# Altium footprint library 常用封装2.PcbLib: 108 footprints (part 7 of 7)
Each footprint in its own frame and in the unit in brackets; x right, y up, seen from the top. Pads: shape width x height; smd on the part's side, far side on the other; paste and mask are expansions set on the pad; w line width, h text height; cw(c..) or ccw(c..) is an arc to the next point about the centre after c.
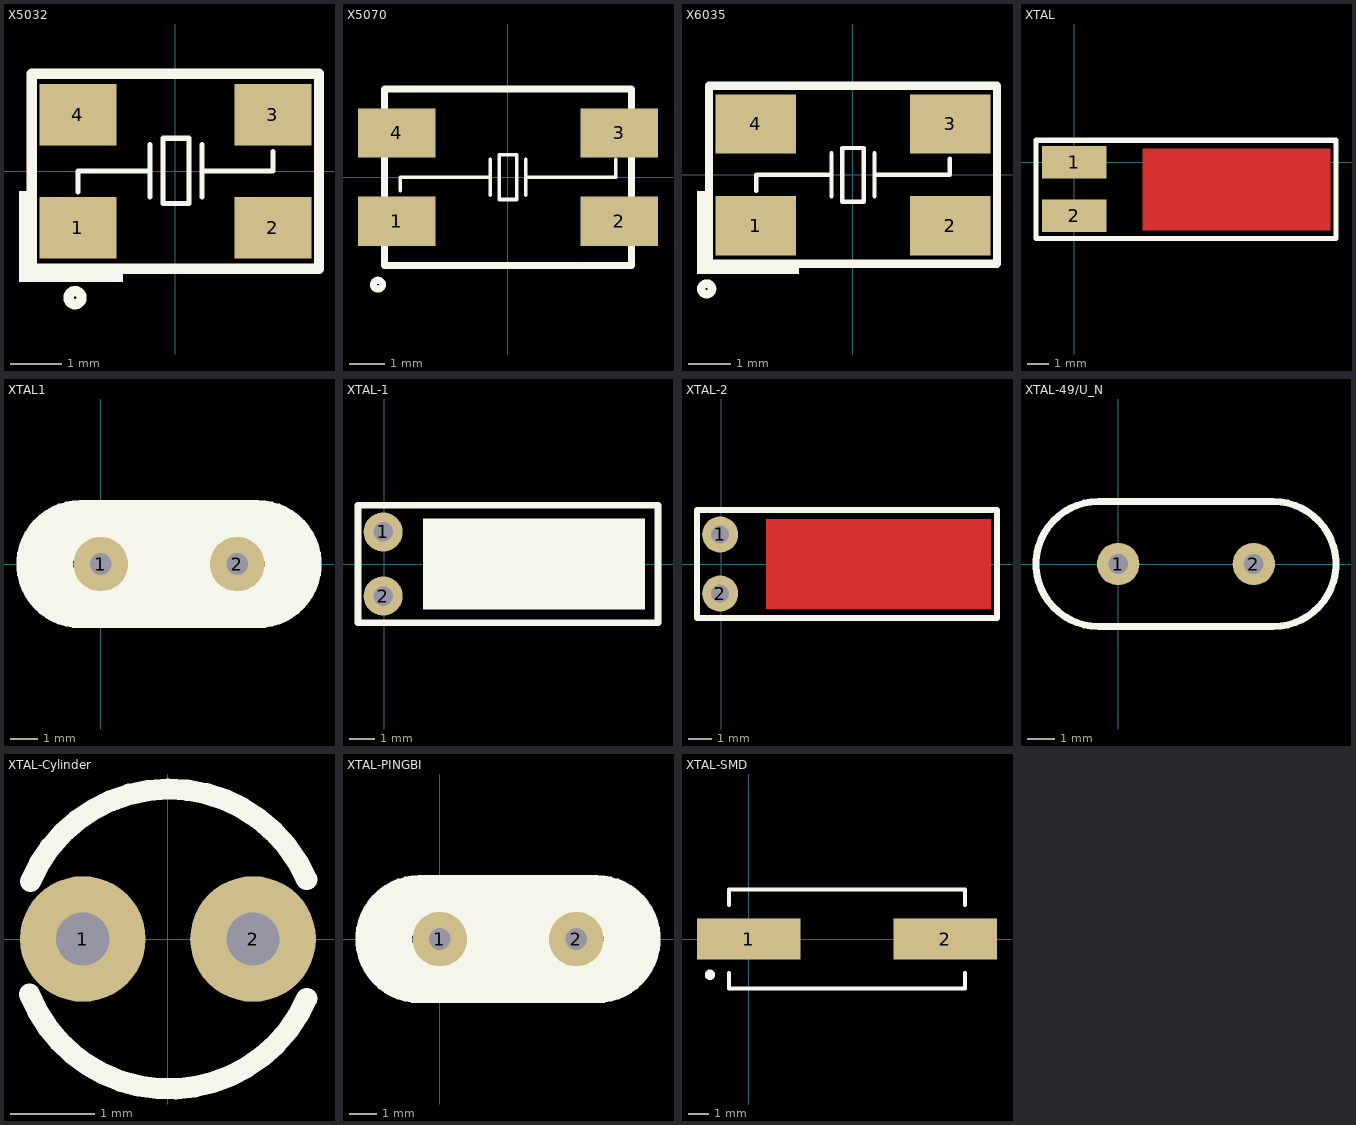
[diagram p6: the footprints below, top view; thin cyan lines are the x and y axes]

## X5032 [mm]
pads (4):
  rect 1.5x1.2 smd: 1(-1.9,-1.1) 2(1.9,-1.1) 3(1.9,1.1) 4(-1.9,1.1)
Top Overlay:
  circle w0.2: c-1.956,-2.464 r0.127
  rectangle: -3.023,-2.159 -1.016,-1.905
  rectangle: -3.048,-2.159 -2.87,-0.381
  lines w0.1: -1.897,-0.406 -1.897,0.008 -0.496,0.008 ; -0.496,-0.5 -0.496,0.516 ; 0.52,-0.5 0.52,0.516 ; 0.52,0.008 1.902,0.008 1.905,0.016 1.905,0.381 ; -0.242,-0.627 -0.242,0.643 0.266,0.643 0.266,0.326 0.266,-0.309 0.266,-0.627 -0.242,-0.627
  lines w0.2: -2.8,-1.9 2.8,-1.9 2.8,1.9 -2.8,1.9 -2.8,-1.9
3D body: height 1, standoff 0, extent -2.5,-1.6 2.5,1.6

## X5070 [mm]
pads (4):
  rect 2.2x1.4 smd: 1(-3.15,-1.25) 2(3.15,-1.25) 3(3.15,1.25) 4(-3.15,1.25)
Top Overlay:
  circle w0.2: c-3.683,-3.048 r0.127
  lines w0.1: -3.048,-0.381 -3.048,0 -0.508,0 ; -0.508,-0.508 -0.508,0.508 ; 0.508,-0.508 0.508,0.508 ; 0.508,0 3.048,0 3.048,0.508 ; -0.254,-0.635 -0.254,0.635 0.254,0.635 0.254,-0.635 -0.254,-0.635
  lines w0.2: -3.5,-2.5 3.5,-2.5 3.5,2.5 -3.5,2.5 -3.5,-2.5
3D body: height 1.31, standoff 0, extent -3.576,-2.54 3.424,2.46

## X6035 [mm]
pads (4):
  rect 1.9x1.4 smd: 1(-2.3,-1.2) 2(2.3,-1.2) 3(2.3,1.2) 4(-2.3,1.2)
Top Overlay:
  circle w0.2: c-3.454,-2.692 r0.127
  rectangle: -3.683,-2.337 -3.48,-0.381
  rectangle: -3.658,-2.337 -1.27,-2.108
  lines w0.1: -2.286,-0.381 -2.286,0 -2.032,0 -0.508,0 ; -0.508,-0.508 -0.508,0.508 ; 0.508,-0.508 0.508,0.508 ; 0.508,0 2.286,0 2.286,0.381 ; -0.254,-0.635 0.254,-0.635 0.254,0.635 -0.254,0.635 -0.254,-0.635
  lines w0.2: -3.4,-2.1 -3.4,2.1 3.4,2.1 3.4,-2.1 -3.4,-2.1
3D body: height 1, standoff 0, extent -2.5,-1.6 2.5,1.6

## XTAL [mm] "卧式安装"
height 3
pads (2):
  rect 3x1.5 smd: 1(0,0) 2(0,-2.5)
Top Layer:
  rectangle: 3.175,-3.175 11.938,0.635
Top Overlay:
  lines w0.254: -1.778,-3.556 -1.778,1.016 12.192,1.016 12.192,-3.556 -1.778,-3.556
3D body: height 3, standoff 0, extent -1.216,-2.75 10.516,0.25

## XTAL1 [mm]
pads (2):
  round 2 hole 0.8: 1(0,0) 2(5,0)
Top Overlay:
  circle w1.2: c5.747,0 r1.653
  circle w1.2: c-0.753,0 r1.653
  rectangle: -0.75,-2.243 5.75,2.257
  lines w0.2: -0.75,-2.25 cw(c-0.75,0) -0.75,2.25 5.75,2.25 cw(c5.75,0) 5.75,-2.25 -0.75,-2.25
  lines w0.254: 5.337,1.229 cw(c5,0) 5.35,1.225
  lines w1: -0.743,0.8 ccw(c-0.725,0) -0.725,-0.8 ; 5.707,0.8 cw(c5.707,0) 5.725,-0.8
3D body: height 3.5, standoff -3, extent -2.95,-2.255 7.85,2.245

## XTAL-1 [mil] "卧式安装"
height 118.11
pads (2):
  round 60 hole 30: 1(-1.42,49.21) 2(-1.42,-49.21)
Top Overlay:
  rectangle: 60,-70 400,70
  lines w10: -40,-90 420,-90 420,90 -40,90 -40,-90
3D body: height 118.11, standoff -78.74, extent -11.25,-59.05 372.61,59.06

## XTAL-2 [mil] "卧式安装"
height 118.11
pads (2):
  round 60 hole 30: 1(-1.42,49.21) 2(-1.42,-49.21)
Top Layer:
  rectangle: 75,-75 450,75
Top Overlay:
  lines w10: -40,-90 460,-90 460,90 -40,90 -40,-90
3D body: height 118.11, standoff -78.74, extent -10,-59.06 373.86,59.06

## XTAL-49/U_N [mil] "高型晶振（未加焊）"
pads (2):
  round 60 hole 28: 1(0,0) 2(192,0)
Top Overlay:
  lines w10: -28,-88.5 cw(c-28,0) -28,88.5 220,88.5 cw(c220,0) 220,-88.5 -28,-88.5
3D body: height 511.81, standoff -118.11, extent -116.54,-88.39 308.66,88.78

## XTAL-Cylinder [mm] "柱式晶振"
height 8
pads (2):
  round 1.5 hole 0.635: 1(-1.016,0) 2(1.016,0)
Top Overlay:
  lines w0.254: -1.652,-0.659 ccw(c0.013,0) 1.657,-0.71 ; -1.642,0.685 cw(c0.013,0) 1.657,0.71
3D body: height 3, standoff -2, extent 0.27,-0.746 1.762,0.746
3D body: height 9, standoff 0.3, extent -1.493,-1.505 1.518,1.505
3D body: height 3, standoff -2, extent -1.762,-0.746 -0.27,0.746

## XTAL-PINGBI [mm]
pads (2):
  round 2 hole 0.8: 1(0,0) 2(5,0)
Top Overlay:
  circle w1.2: c5.747,0 r1.653
  circle w1.2: c-0.753,0 r1.653
  rectangle: -0.75,-2.243 5.75,2.257
  lines w0.2: -0.75,-2.25 cw(c-0.75,0) -0.75,2.25 5.75,2.25 cw(c5.75,0) 5.75,-2.25 -0.75,-2.25
  lines w0.254: 5.337,1.229 cw(c5,0) 5.35,1.225
  lines w1: -0.743,0.8 ccw(c-0.725,0) -0.725,-0.8 ; 5.707,0.8 cw(c5.707,0) 5.725,-0.8
3D body: height 3.5, standoff -3, extent -2.95,-2.255 7.85,2.245

## XTAL-SMD [mm]
pads (2):
  rect 5x2 smd: 1(0,0) 2(9.5,0)
Top Overlay:
  circle w0.25: c-1.875,-1.73 r0.125
  lines w0.2: -0.95,-1.65 -0.95,-2.4 10.45,-2.4 10.45,-1.65 ; -0.95,1.65 -0.95,2.4 10.45,2.4 10.45,1.65
3D body: height 4, standoff 0, extent -1.95,-2.462 11.45,2.438

## 散热片 [mm]
3D body: height 25, standoff -3.8, extent -7.544,-2.286 7.237,8.515